# EAGLE library part CD74HC14E (library 74HC14)
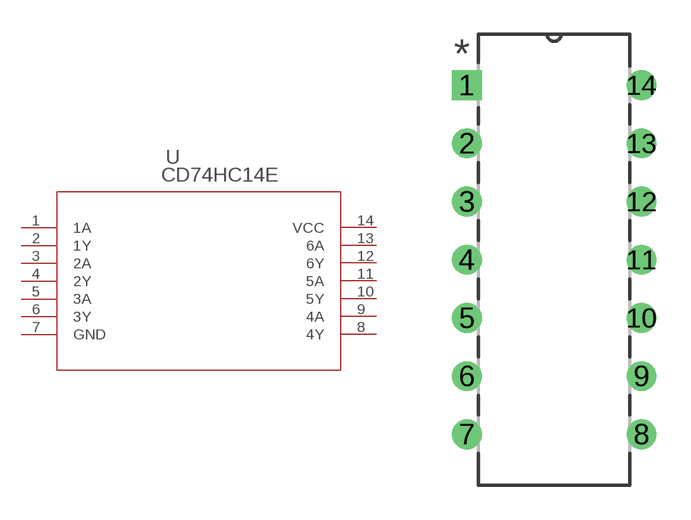
[diagram p0: symbol with the pads of N14; footprint N14]

Designator prefix U

## CD74HC14EN14 (Copyright: Copyright (C) 2026 Ultra Librarian. All rights reserved.; Datasheet: https://www.ti.com/lit/gpn/cd74hc14; Description: 6-ch, 2-V to 6-V inverters with Schmitt-Trigger inputs 14-PDIP -55 to 125; Manufacturer_Name: Texas Instruments; Manufacturer_Part_Number: CD74HC14E)  [N14]
1  1A  in
2  1Y  out
3  2A  in
4  2Y  out
5  3A  in
6  3Y  out
7  GND  pwr
8  4Y  out
9  4A  in
10  5Y  out
11  5A  in
12  6Y  out
13  6A  in
14  VCC  pwr

## Footprint N14 (pad centres in mm)
drill 0.787 pad 1.295 square: 1 -7.62,15.24
drill 0.787 pad 1.295 round: 2 -7.62,12.7; 3 -7.62,10.16; 4 -7.62,7.62; 5 -7.62,5.08; 6 -7.62,2.54; 7 -7.62,0; 8 0,0; 9 0,2.54; 10 0,5.08; 11 0,7.62; 12 0,10.16; 13 0,12.7; 14 0,15.24